# Altium schematic symbol library Capacitor - Aluminium Polymer.SchLib: 273 symbols (part 2 of 4)
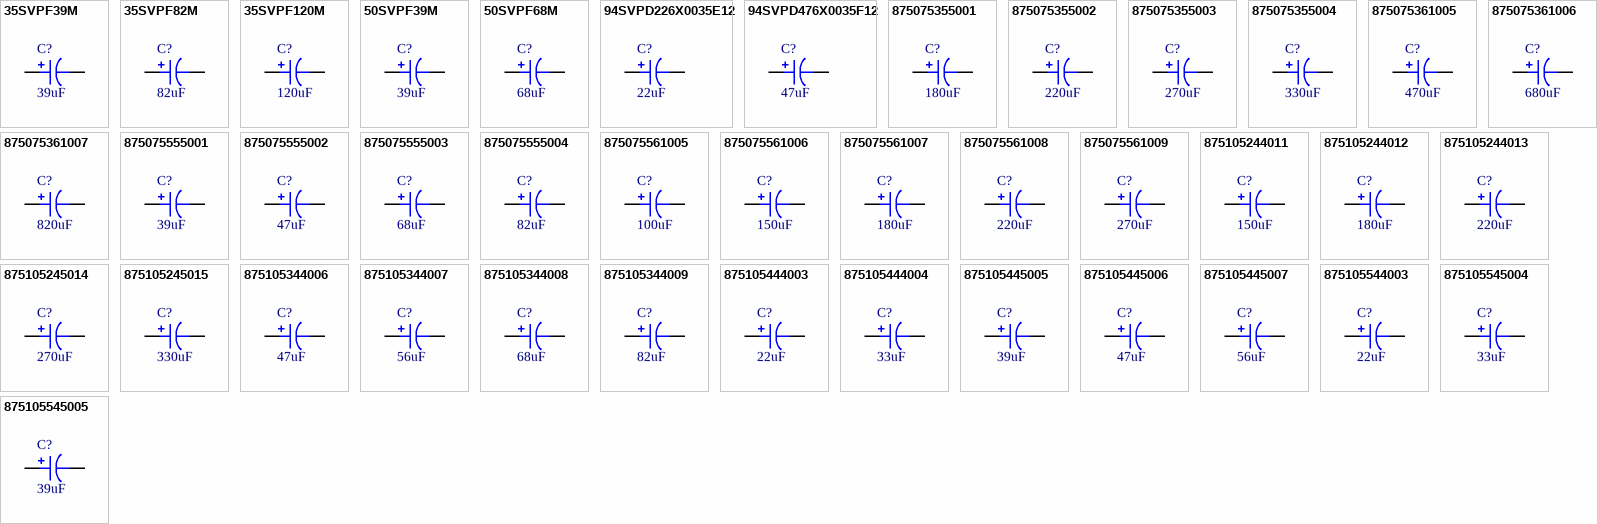
[diagram p7: symbols 35SVPF39M to 875105545005]

## 875105344006
designator C?, comment 47uF
CAP POLYMER 47UF 20% 16V SMD; Part Number: 875105344006; Manufacturer: Wurth Electronics Inc; TemperatureRange: -55C ~ 105C; Type: General Purpose; Ripple Current: 2.2A; Lifetime @ Temp: 2000 Hrs @ 105C; Value: 47uF; PartId: 7486; Supplier 1: Digi-Key; Supplier Part Number 1: 732-6421-2-ND; ComponentLink1Description: Datasheet; ComponentLink1URL: http://katalog.we-online.de/pbs/datasheet/875105344006.pdf; ComponentLink2Description: Digi-Key listing; ComponentLink2URL: http://digikey.com/product-detail/en/875105344006/732-6421-2-ND/5147585; Tolerance: 20%; Voltage: 16V; Price: 0.4489; Device Package: Radial, Can - SMD; Impedance: -
footprint CAP ALUM 6.6MM
pins: 1, 2

## 875105344007
designator C?, comment 56uF
CAP POLYMER 56UF 20% 16V SMD; Part Number: 875105344007; Manufacturer: Wurth Electronics Inc; TemperatureRange: -55C ~ 105C; Type: General Purpose; Ripple Current: 2.2A; Lifetime @ Temp: 2000 Hrs @ 105C; Value: 56uF; PartId: 7487; Supplier 1: Digi-Key; Supplier Part Number 1: 732-6422-2-ND; ComponentLink1Description: Datasheet; ComponentLink1URL: http://katalog.we-online.de/pbs/datasheet/875105344007.pdf; ComponentLink2Description: Digi-Key listing; ComponentLink2URL: http://digikey.com/product-detail/en/875105344007/732-6422-2-ND/5147586; Tolerance: 20%; Voltage: 16V; Price: 0.4619; Device Package: Radial, Can - SMD; Impedance: -
footprint CAP ALUM 6.6MM
pins: 1, 2

## 875105344008
designator C?, comment 68uF
CAP POLYMER 68UF 20% 16V SMD; Part Number: 875105344008; Manufacturer: Wurth Electronics Inc; TemperatureRange: -55C ~ 105C; Type: General Purpose; Ripple Current: 2.2A; Lifetime @ Temp: 2000 Hrs @ 105C; Value: 68uF; PartId: 7488; Supplier 1: Digi-Key; Supplier Part Number 1: 732-6423-2-ND; ComponentLink1Description: Datasheet; ComponentLink1URL: http://katalog.we-online.de/pbs/datasheet/875105344008.pdf; ComponentLink2Description: Digi-Key listing; ComponentLink2URL: http://digikey.com/product-detail/en/875105344008/732-6423-2-ND/5147587; Tolerance: 20%; Voltage: 16V; Price: 0.4791; Device Package: Radial, Can - SMD; Impedance: -
footprint CAP ALUM 6.6MM
pins: 1, 2

## 875105344009
designator C?, comment 82uF
CAP POLYMER 82UF 20% 16V SMD; Part Number: 875105344009; Manufacturer: Wurth Electronics Inc; TemperatureRange: -55C ~ 105C; Type: General Purpose; Ripple Current: 2.2A; Lifetime @ Temp: 2000 Hrs @ 105C; Value: 82uF; PartId: 7489; Supplier 1: Digi-Key; Supplier Part Number 1: 732-6424-2-ND; ComponentLink1Description: Datasheet; ComponentLink1URL: http://katalog.we-online.de/pbs/datasheet/875105344009.pdf; ComponentLink2Description: Digi-Key listing; ComponentLink2URL: http://digikey.com/product-detail/en/875105344009/732-6424-2-ND/5147588; Tolerance: 20%; Voltage: 16V; Price: 0.502; Device Package: Radial, Can - SMD; Impedance: -
footprint CAP ALUM 6.6MM
pins: 1, 2

## 875105444003
designator C?, comment 22uF
CAP POLYMER 22UF 20% 20V SMD; Part Number: 875105444003; Manufacturer: Wurth Electronics Inc; TemperatureRange: -55C ~ 105C; Type: General Purpose; Ripple Current: 2.2A; Lifetime @ Temp: 2000 Hrs @ 105C; Value: 22uF; PartId: 7494; Supplier 1: Digi-Key; Supplier Part Number 1: 732-6429-2-ND; ComponentLink1Description: Datasheet; ComponentLink1URL: http://katalog.we-online.de/pbs/datasheet/875105444003.pdf; ComponentLink2Description: Digi-Key listing; ComponentLink2URL: http://digikey.com/product-detail/en/875105444003/732-6429-2-ND/5147593; Tolerance: 20%; Voltage: 20V; Price: 0.535; Device Package: Radial, Can - SMD; Impedance: -
footprint CAP ALUM 6.6MM
pins: 1, 2

## 875105444004
designator C?, comment 33uF
CAP POLYMER 33UF 20% 20V SMD; Part Number: 875105444004; Manufacturer: Wurth Electronics Inc; TemperatureRange: -55C ~ 105C; Type: General Purpose; Ripple Current: 2.2A; Lifetime @ Temp: 2000 Hrs @ 105C; Value: 33uF; PartId: 7495; Supplier 1: Digi-Key; Supplier Part Number 1: 732-6430-2-ND; ComponentLink1Description: Datasheet; ComponentLink1URL: http://katalog.we-online.de/pbs/datasheet/875105444004.pdf; ComponentLink2Description: Digi-Key listing; ComponentLink2URL: http://digikey.com/product-detail/en/875105444004/732-6430-2-ND/5147594; Tolerance: 20%; Voltage: 20V; Price: 0.5479; Device Package: Radial, Can - SMD; Impedance: -
footprint CAP ALUM 6.6MM
pins: 1, 2

## 875105445005
designator C?, comment 39uF
CAP POLYMER 39UF 20% 20V SMD; Part Number: 875105445005; Manufacturer: Wurth Electronics Inc; TemperatureRange: -55C ~ 105C; Type: General Purpose; Ripple Current: 2.67A; Lifetime @ Temp: 2000 Hrs @ 105C; Value: 39uF; PartId: 7497; Supplier 1: Digi-Key; Supplier Part Number 1: 732-6431-2-ND; ComponentLink1Description: Datasheet; ComponentLink1URL: http://katalog.we-online.de/pbs/datasheet/875105445005.pdf; ComponentLink2Description: Digi-Key listing; ComponentLink2URL: http://digikey.com/product-detail/en/875105445005/732-6431-2-ND/5147595; Tolerance: 20%; Voltage: 20V; Price: 0.5508; Device Package: Radial, Can - SMD; Impedance: -
footprint CAP ALUM 6.6MM
pins: 1, 2

## 875105445006
designator C?, comment 47uF
CAP POLYMER 47UF 20% 20V SMD; Part Number: 875105445006; Manufacturer: Wurth Electronics Inc; TemperatureRange: -55C ~ 105C; Type: General Purpose; Ripple Current: 2.67A; Lifetime @ Temp: 2000 Hrs @ 105C; Value: 47uF; PartId: 7499; Supplier 1: Digi-Key; Supplier Part Number 1: 732-6432-2-ND; ComponentLink1Description: Datasheet; ComponentLink1URL: http://katalog.we-online.de/pbs/datasheet/875105445006.pdf; ComponentLink2Description: Digi-Key listing; ComponentLink2URL: http://digikey.com/product-detail/en/875105445006/732-6432-2-ND/5147596; Tolerance: 20%; Voltage: 20V; Price: 0.5579; Device Package: Radial, Can - SMD; Impedance: -
footprint CAP ALUM 6.6MM
pins: 1, 2

## 875105445007
designator C?, comment 56uF
CAP POLYMER 56UF 20% 20V SMD; Part Number: 875105445007; Manufacturer: Wurth Electronics Inc; TemperatureRange: -55C ~ 105C; Type: General Purpose; Ripple Current: 2.67A; Lifetime @ Temp: 2000 Hrs @ 105C; Value: 56uF; PartId: 7500; Supplier 1: Digi-Key; Supplier Part Number 1: 732-6433-2-ND; ComponentLink1Description: Datasheet; ComponentLink1URL: http://katalog.we-online.de/pbs/datasheet/875105445007.pdf; ComponentLink2Description: Digi-Key listing; ComponentLink2URL: http://digikey.com/product-detail/en/875105445007/732-6433-2-ND/5147597; Tolerance: 20%; Voltage: 20V; Price: 0.5608; Device Package: Radial, Can - SMD; Impedance: -
footprint CAP ALUM 6.6MM
pins: 1, 2

## 875105544003
designator C?, comment 22uF
CAP POLYMER 22UF 20% 25V SMD; Part Number: 875105544003; Manufacturer: Wurth Electronics Inc; TemperatureRange: -55C ~ 105C; Type: General Purpose; Ripple Current: 2.2A; Lifetime @ Temp: 2000 Hrs @ 105C; Value: 22uF; PartId: 7501; Supplier 1: Digi-Key; Supplier Part Number 1: 732-6436-2-ND; ComponentLink1Description: Datasheet; ComponentLink1URL: http://katalog.we-online.de/pbs/datasheet/875105544003.pdf; ComponentLink2Description: Digi-Key listing; ComponentLink2URL: http://digikey.com/product-detail/en/875105544003/732-6436-2-ND/5147600; Tolerance: 20%; Voltage: 25V; Price: 0.5608; Device Package: Radial, Can - SMD; Impedance: -
footprint CAP ALUM 6.6MM
pins: 1, 2

## 875105545004
designator C?, comment 33uF
CAP POLYMER 33UF 20% 25V SMD; Part Number: 875105545004; Manufacturer: Wurth Electronics Inc; TemperatureRange: -55C ~ 105C; Type: General Purpose; Ripple Current: 2.67A; Lifetime @ Temp: 2000 Hrs @ 105C; Value: 33uF; PartId: 7502; Supplier 1: Digi-Key; Supplier Part Number 1: 732-6437-2-ND; ComponentLink1Description: Datasheet; ComponentLink1URL: http://katalog.we-online.de/pbs/datasheet/875105545004.pdf; ComponentLink2Description: Digi-Key listing; ComponentLink2URL: http://digikey.com/product-detail/en/875105545004/732-6437-2-ND/5147601; Tolerance: 20%; Voltage: 25V; Price: 0.568; Device Package: Radial, Can - SMD; Impedance: -
footprint CAP ALUM 6.6MM
pins: 1, 2

## 875105545005
designator C?, comment 39uF
CAP POLYMER 39UF 20% 25V SMD; Part Number: 875105545005; Manufacturer: Wurth Electronics Inc; TemperatureRange: -55C ~ 105C; Type: General Purpose; Ripple Current: 2.67A; Lifetime @ Temp: 2000 Hrs @ 105C; Value: 39uF; PartId: 7503; Supplier 1: Digi-Key; Supplier Part Number 1: 732-6438-2-ND; ComponentLink1Description: Datasheet; ComponentLink1URL: http://katalog.we-online.de/pbs/datasheet/875105545005.pdf; ComponentLink2Description: Digi-Key listing; ComponentLink2URL: http://digikey.com/product-detail/en/875105545005/732-6438-2-ND/5147602; Tolerance: 20%; Voltage: 25V; Price: 0.5737; Device Package: Radial, Can - SMD; Impedance: -
footprint CAP ALUM 6.6MM
pins: 1, 2

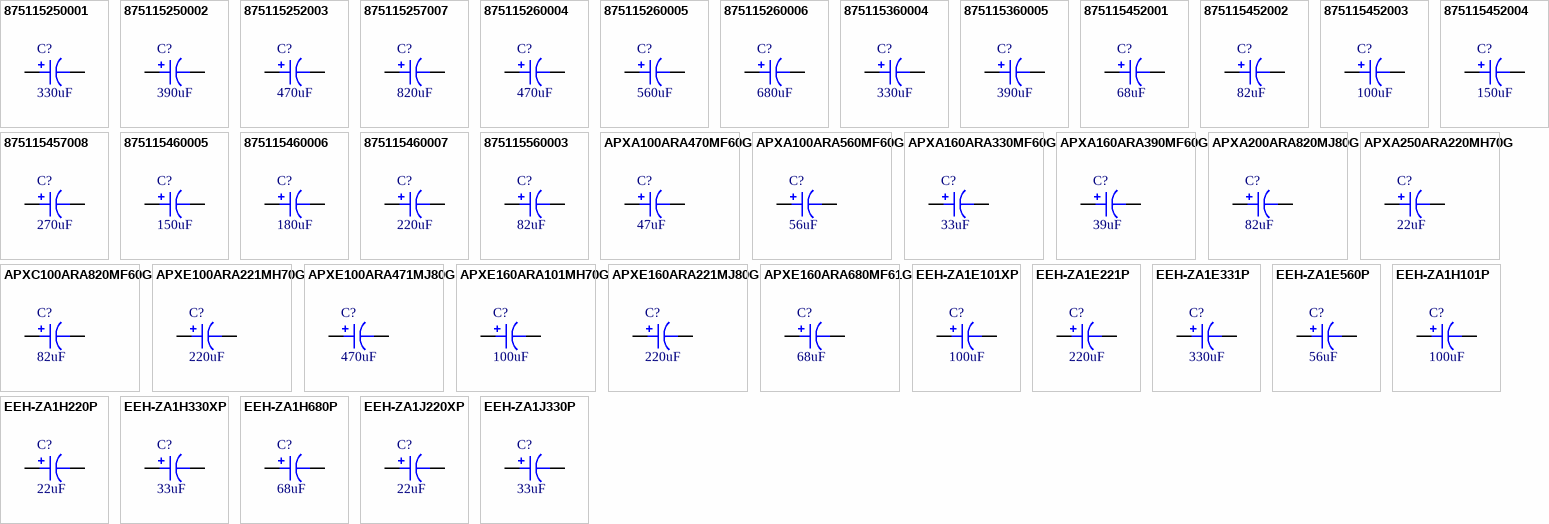
[diagram p2: symbols 875115250001 to EEH-ZA1J330P]

## 875115250001
designator C?, comment 330uF
CAP POLYMER 330UF 20% 10V SMD; Part Number: 875115250001; Manufacturer: Wurth Electronics Inc; TemperatureRange: -55C ~ 105C; Type: General Purpose; Ripple Current: 3.5A; Lifetime @ Temp: 2000 Hrs @ 105C; Value: 330uF; PartId: 7595; Supplier 1: Digi-Key; Supplier Part Number 1: 732-6449-2-ND; ComponentLink1Description: Datasheet; ComponentLink1URL: http://katalog.we-online.de/pbs/datasheet/875115250001.pdf; ComponentLink2Description: Digi-Key listing; ComponentLink2URL: http://digikey.com/product-detail/en/875115250001/732-6449-2-ND/5147613; Tolerance: 20%; Voltage: 10V; Price: 0.9323; Device Package: Radial, Can - SMD; Impedance: -
footprint CAP ALUM 8.3MM
pins: 1, 2

## 875115250002
designator C?, comment 390uF
CAP POLYMER 390UF 20% 10V SMD; Part Number: 875115250002; Manufacturer: Wurth Electronics Inc; TemperatureRange: -55C ~ 105C; Type: General Purpose; Ripple Current: 3.5A; Lifetime @ Temp: 2000 Hrs @ 105C; Value: 390uF; PartId: 7597; Supplier 1: Digi-Key; Supplier Part Number 1: 732-6450-2-ND; ComponentLink1Description: Datasheet; ComponentLink1URL: http://katalog.we-online.de/pbs/datasheet/875115250002.pdf; ComponentLink2Description: Digi-Key listing; ComponentLink2URL: http://digikey.com/product-detail/en/875115250002/732-6450-2-ND/5147614; Tolerance: 20%; Voltage: 10V; Price: 0.9596; Device Package: Radial, Can - SMD; Impedance: -
footprint CAP ALUM 8.3MM
pins: 1, 2

## 875115252003
designator C?, comment 470uF
CAP POLYMER 470UF 20% 10V SMD; Part Number: 875115252003; Manufacturer: Wurth Electronics Inc; TemperatureRange: -55C ~ 105C; Type: General Purpose; Ripple Current: 4.8A; Lifetime @ Temp: 2000 Hrs @ 105C; Value: 470uF; PartId: 7604; Supplier 1: Digi-Key; Supplier Part Number 1: 732-6451-2-ND; ComponentLink1Description: Datasheet; ComponentLink1URL: http://katalog.we-online.de/pbs/datasheet/875115252003.pdf; ComponentLink2Description: Digi-Key listing; ComponentLink2URL: http://digikey.com/product-detail/en/875115252003/732-6451-2-ND/5147615; Tolerance: 20%; Voltage: 10V; Price: 1.0528; Device Package: Radial, Can - SMD; Impedance: -
footprint CAP ALUM 8.3MM
pins: 1, 2

## 875115257007
designator C?, comment 820uF
CAP POLYMER 820UF 20% 10V SMD; Part Number: 875115257007; Manufacturer: Wurth Electronics Inc; TemperatureRange: -55C ~ 105C; Type: General Purpose; Ripple Current: 5.1A; Lifetime @ Temp: 2000 Hrs @ 105C; Value: 820uF; PartId: 7710; Supplier 1: Digi-Key; Supplier Part Number 1: 732-6455-2-ND; ComponentLink1Description: Datasheet; ComponentLink1URL: http://katalog.we-online.de/pbs/datasheet/875115257007.pdf; ComponentLink2Description: Digi-Key listing; ComponentLink2URL: http://digikey.com/product-detail/en/875115257007/732-6455-2-ND/5147619; Tolerance: 20%; Voltage: 10V; Price: 1.5275; Device Package: Radial, Can - SMD; Impedance: -
footprint CAP ALUM 10.3MM
pins: 1, 2

## 875115260004
designator C?, comment 470uF
CAP POLYMER 470UF 20% 10V SMD; Part Number: 875115260004; Manufacturer: Wurth Electronics Inc; TemperatureRange: -55C ~ 105C; Type: General Purpose; Ripple Current: 3.7A; Lifetime @ Temp: 2000 Hrs @ 105C; Value: 470uF; PartId: 7678; Supplier 1: Digi-Key; Supplier Part Number 1: 732-6452-2-ND; ComponentLink1Description: Datasheet; ComponentLink1URL: http://katalog.we-online.de/pbs/datasheet/875115260004.pdf; ComponentLink2Description: Digi-Key listing; ComponentLink2URL: http://digikey.com/product-detail/en/875115260004/732-6452-2-ND/5147616; Tolerance: 20%; Voltage: 10V; Price: 1.1575; Device Package: Radial, Can - SMD; Impedance: -
footprint CAP ALUM 10.3MM
pins: 1, 2

## 875115260005
designator C?, comment 560uF
CAP POLYMER 560UF 20% 10V SMD; Part Number: 875115260005; Manufacturer: Wurth Electronics Inc; TemperatureRange: -55C ~ 105C; Type: General Purpose; Ripple Current: 3.7A; Lifetime @ Temp: 2000 Hrs @ 105C; Value: 560uF; PartId: 7694; Supplier 1: Digi-Key; Supplier Part Number 1: 732-6453-2-ND; ComponentLink1Description: Datasheet; ComponentLink1URL: http://katalog.we-online.de/pbs/datasheet/875115260005.pdf; ComponentLink2Description: Digi-Key listing; ComponentLink2URL: http://digikey.com/product-detail/en/875115260005/732-6453-2-ND/5147617; Tolerance: 20%; Voltage: 10V; Price: 1.278; Device Package: Radial, Can - SMD; Impedance: -
footprint CAP ALUM 10.3MM
pins: 1, 2

## 875115260006
designator C?, comment 680uF
CAP POLYMER 680UF 20% 10V SMD; Part Number: 875115260006; Manufacturer: Wurth Electronics Inc; TemperatureRange: -55C ~ 105C; Type: General Purpose; Ripple Current: 3.7A; Lifetime @ Temp: 2000 Hrs @ 105C; Value: 680uF; PartId: 7703; Supplier 1: Digi-Key; Supplier Part Number 1: 732-6454-2-ND; ComponentLink1Description: Datasheet; ComponentLink1URL: http://katalog.we-online.de/pbs/datasheet/875115260006.pdf; ComponentLink2Description: Digi-Key listing; ComponentLink2URL: http://digikey.com/product-detail/en/875115260006/732-6454-2-ND/5147618; Tolerance: 20%; Voltage: 10V; Price: 1.3827; Device Package: Radial, Can - SMD; Impedance: -
footprint CAP ALUM 10.3MM
pins: 1, 2

## 875115360004
designator C?, comment 330uF
CAP POLYMER 330UF 20% 16V SMD; Part Number: 875115360004; Manufacturer: Wurth Electronics Inc; TemperatureRange: -55C ~ 105C; Type: General Purpose; Ripple Current: 3.7A; Lifetime @ Temp: 2000 Hrs @ 105C; Value: 330uF; PartId: 7679; Supplier 1: Digi-Key; Supplier Part Number 1: 732-6459-2-ND; ComponentLink1Description: Datasheet; ComponentLink1URL: http://katalog.we-online.de/pbs/datasheet/875115360004.pdf; ComponentLink2Description: Digi-Key listing; ComponentLink2URL: http://digikey.com/product-detail/en/875115360004/732-6459-2-ND/5147623; Tolerance: 20%; Voltage: 16V; Price: 1.1575; Device Package: Radial, Can - SMD; Impedance: -
footprint CAP ALUM 10.3MM
pins: 1, 2

## 875115360005
designator C?, comment 390uF
CAP POLYMER 390UF 20% 16V SMD; Part Number: 875115360005; Manufacturer: Wurth Electronics Inc; TemperatureRange: -55C ~ 105C; Type: General Purpose; Ripple Current: 3.7A; Lifetime @ Temp: 2000 Hrs @ 105C; Value: 390uF; PartId: 7689; Supplier 1: Digi-Key; Supplier Part Number 1: 732-6460-2-ND; ComponentLink1Description: Datasheet; ComponentLink1URL: http://katalog.we-online.de/pbs/datasheet/875115360005.pdf; ComponentLink2Description: Digi-Key listing; ComponentLink2URL: http://digikey.com/product-detail/en/875115360005/732-6460-2-ND/5147624; Tolerance: 20%; Voltage: 16V; Price: 1.2292; Device Package: Radial, Can - SMD; Impedance: -
footprint CAP ALUM 10.3MM
pins: 1, 2

## 875115452001
designator C?, comment 68uF
CAP POLYMER 68UF 20% 20V SMD; Part Number: 875115452001; Manufacturer: Wurth Electronics Inc; TemperatureRange: -55C ~ 105C; Type: General Purpose; Ripple Current: 3.5A; Lifetime @ Temp: 2000 Hrs @ 105C; Value: 68uF; PartId: 7608; Supplier 1: Digi-Key; Supplier Part Number 1: 732-6462-2-ND; ComponentLink1Description: Datasheet; ComponentLink1URL: http://katalog.we-online.de/pbs/datasheet/875115452001.pdf; ComponentLink2Description: Digi-Key listing; ComponentLink2URL: http://digikey.com/product-detail/en/875115452001/732-6462-2-ND/5147626; Tolerance: 20%; Voltage: 20V; Price: 1.0915; Device Package: Radial, Can - SMD; Impedance: -
footprint CAP ALUM 8.3MM
pins: 1, 2

## 875115452002
designator C?, comment 82uF
CAP POLYMER 82UF 20% 20V SMD; Part Number: 875115452002; Manufacturer: Wurth Electronics Inc; TemperatureRange: -55C ~ 105C; Type: General Purpose; Ripple Current: 3.5A; Lifetime @ Temp: 2000 Hrs @ 105C; Value: 82uF; PartId: 7611; Supplier 1: Digi-Key; Supplier Part Number 1: 732-6463-2-ND; ComponentLink1Description: Datasheet; ComponentLink1URL: http://katalog.we-online.de/pbs/datasheet/875115452002.pdf; ComponentLink2Description: Digi-Key listing; ComponentLink2URL: http://digikey.com/product-detail/en/875115452002/732-6463-2-ND/5147627; Tolerance: 20%; Voltage: 20V; Price: 1.1159; Device Package: Radial, Can - SMD; Impedance: -
footprint CAP ALUM 8.3MM
pins: 1, 2

## 875115452003
designator C?, comment 100uF
CAP POLYMER 100UF 20% 20V SMD; Part Number: 875115452003; Manufacturer: Wurth Electronics Inc; TemperatureRange: -55C ~ 105C; Type: General Purpose; Ripple Current: 3.5A; Lifetime @ Temp: 2000 Hrs @ 105C; Value: 100uF; PartId: 7613; Supplier 1: Digi-Key; Supplier Part Number 1: 732-6464-2-ND; ComponentLink1Description: Datasheet; ComponentLink1URL: http://katalog.we-online.de/pbs/datasheet/875115452003.pdf; ComponentLink2Description: Digi-Key listing; ComponentLink2URL: http://digikey.com/product-detail/en/875115452003/732-6464-2-ND/5147628; Tolerance: 20%; Voltage: 20V; Price: 1.1403; Device Package: Radial, Can - SMD; Impedance: -
footprint CAP ALUM 8.3MM
pins: 1, 2

## 875115452004
designator C?, comment 150uF
CAP POLYMER 150UF 20% 20V SMD; Part Number: 875115452004; Manufacturer: Wurth Electronics Inc; TemperatureRange: -55C ~ 105C; Type: General Purpose; Ripple Current: 3.5A; Lifetime @ Temp: 2000 Hrs @ 105C; Value: 150uF; PartId: 7614; Supplier 1: Digi-Key; Supplier Part Number 1: 732-6465-2-ND; ComponentLink1Description: Datasheet; ComponentLink1URL: http://katalog.we-online.de/pbs/datasheet/875115452004.pdf; ComponentLink2Description: Digi-Key listing; ComponentLink2URL: http://digikey.com/product-detail/en/875115452004/732-6465-2-ND/5147629; Tolerance: 20%; Voltage: 20V; Price: 1.1532; Device Package: Radial, Can - SMD; Impedance: -
footprint CAP ALUM 8.3MM
pins: 1, 2

## 875115457008
designator C?, comment 270uF
CAP POLYMER 270UF 20% 20V SMD; Part Number: 875115457008; Manufacturer: Wurth Electronics Inc; TemperatureRange: -55C ~ 105C; Type: General Purpose; Ripple Current: 3.7A; Lifetime @ Temp: 2000 Hrs @ 105C; Value: 270uF; PartId: 7711; Supplier 1: Digi-Key; Supplier Part Number 1: 732-6469-2-ND; ComponentLink1Description: Datasheet; ComponentLink1URL: http://katalog.we-online.de/pbs/datasheet/875115457008.pdf; ComponentLink2Description: Digi-Key listing; ComponentLink2URL: http://digikey.com/product-detail/en/875115457008/732-6469-2-ND/5147633; Tolerance: 20%; Voltage: 20V; Price: 1.5275; Device Package: Radial, Can - SMD; Impedance: -
footprint CAP ALUM 10.3MM
pins: 1, 2

## 875115460005
designator C?, comment 150uF
CAP POLYMER 150UF 20% 20V SMD; Part Number: 875115460005; Manufacturer: Wurth Electronics Inc; TemperatureRange: -55C ~ 105C; Type: General Purpose; Ripple Current: 3.1A; Lifetime @ Temp: 2000 Hrs @ 105C; Value: 150uF; PartId: 7680; Supplier 1: Digi-Key; Supplier Part Number 1: 732-6466-2-ND; ComponentLink1Description: Datasheet; ComponentLink1URL: http://katalog.we-online.de/pbs/datasheet/875115460005.pdf; ComponentLink2Description: Digi-Key listing; ComponentLink2URL: http://digikey.com/product-detail/en/875115460005/732-6466-2-ND/5147630; Tolerance: 20%; Voltage: 20V; Price: 1.1575; Device Package: Radial, Can - SMD; Impedance: -
footprint CAP ALUM 10.3MM
pins: 1, 2

## 875115460006
designator C?, comment 180uF
CAP POLYMER 180UF 20% 20V SMD; Part Number: 875115460006; Manufacturer: Wurth Electronics Inc; TemperatureRange: -55C ~ 105C; Type: General Purpose; Ripple Current: 3.1A; Lifetime @ Temp: 2000 Hrs @ 105C; Value: 180uF; PartId: 7683; Supplier 1: Digi-Key; Supplier Part Number 1: 732-6467-2-ND; ComponentLink1Description: Datasheet; ComponentLink1URL: http://katalog.we-online.de/pbs/datasheet/875115460006.pdf; ComponentLink2Description: Digi-Key listing; ComponentLink2URL: http://digikey.com/product-detail/en/875115460006/732-6467-2-ND/5147631; Tolerance: 20%; Voltage: 20V; Price: 1.1819; Device Package: Radial, Can - SMD; Impedance: -
footprint CAP ALUM 10.3MM
pins: 1, 2

## 875115460007
designator C?, comment 220uF
CAP POLYMER 220UF 20% 20V SMD; Part Number: 875115460007; Manufacturer: Wurth Electronics Inc; TemperatureRange: -55C ~ 105C; Type: General Purpose; Ripple Current: 3.1A; Lifetime @ Temp: 2000 Hrs @ 105C; Value: 220uF; PartId: 7686; Supplier 1: Digi-Key; Supplier Part Number 1: 732-6468-2-ND; ComponentLink1Description: Datasheet; ComponentLink1URL: http://katalog.we-online.de/pbs/datasheet/875115460007.pdf; ComponentLink2Description: Digi-Key listing; ComponentLink2URL: http://digikey.com/product-detail/en/875115460007/732-6468-2-ND/5147632; Tolerance: 20%; Voltage: 20V; Price: 1.202; Device Package: Radial, Can - SMD; Impedance: -
footprint CAP ALUM 10.3MM
pins: 1, 2

## 875115560003
designator C?, comment 82uF
CAP POLYMER 82UF 20% 25V SMD; Part Number: 875115560003; Manufacturer: Wurth Electronics Inc; TemperatureRange: -55C ~ 105C; Type: General Purpose; Ripple Current: 3.1A; Lifetime @ Temp: 2000 Hrs @ 105C; Value: 82uF; PartId: 7699; Supplier 1: Digi-Key; Supplier Part Number 1: 732-6472-2-ND; ComponentLink1Description: Datasheet; ComponentLink1URL: http://katalog.we-online.de/pbs/datasheet/875115560003.pdf; ComponentLink2Description: Digi-Key listing; ComponentLink2URL: http://digikey.com/product-detail/en/875115560003/732-6472-2-ND/5147636; Tolerance: 20%; Voltage: 25V; Price: 1.3239; Device Package: Radial, Can - SMD; Impedance: -
footprint CAP ALUM 10.3MM
pins: 1, 2

## APXA100ARA470MF60G
designator C?, comment 47uF
CAP POLYMER 47UF 20% 10V SMD; Part Number: APXA100ARA470MF60G; Manufacturer: United Chemi-Con; TemperatureRange: -55C ~ 105C; Ripple Current: 2.25A; Lifetime @ Temp: 2000 Hrs @ 105C; Value: 47uF; PartId: 7504; Supplier 1: Digi-Key; Supplier Part Number 1: 565-3073-2-ND; ComponentLink1Description: Datasheet; ComponentLink1URL: http://www.chemi-con.co.jp/cgi-bin/CAT_DB/SEARCH/cat_db_al.cgi?e=e&j=p&pdfname=pxa; ComponentLink2Description: Digi-Key listing; ComponentLink2URL: http://digikey.com/product-detail/en/APXA100ARA470MF60G/565-3073-2-ND/758504; Tolerance: 20%; Voltage: 10V; Price: 0.5831; Type: -; Device Package: Radial, Can - SMD; Impedance: -
footprint CAP ALUM 6.6MM
pins: 1, 2

## APXA100ARA560MF60G
designator C?, comment 56uF
CAP POLYMER 56UF 20% 10V SMD; Part Number: APXA100ARA560MF60G; Manufacturer: United Chemi-Con; TemperatureRange: -55C ~ 105C; Ripple Current: 2.25A; Lifetime @ Temp: 2000 Hrs @ 105C; Value: 56uF; PartId: 7505; Supplier 1: Digi-Key; Supplier Part Number 1: 565-3076-2-ND; ComponentLink1Description: Datasheet; ComponentLink1URL: http://www.chemi-con.co.jp/cgi-bin/CAT_DB/SEARCH/cat_db_al.cgi?e=e&j=p&pdfname=pxa; ComponentLink2Description: Digi-Key listing; ComponentLink2URL: http://digikey.com/product-detail/en/APXA100ARA560MF60G/565-3076-2-ND/758507; Tolerance: 20%; Voltage: 10V; Price: 0.5874; Type: -; Device Package: Radial, Can - SMD; Impedance: -
footprint CAP ALUM 6.6MM
pins: 1, 2

## APXA160ARA330MF60G
designator C?, comment 33uF
CAP POLYMER 33UF 20% 16V SMD; Part Number: APXA160ARA330MF60G; Manufacturer: United Chemi-Con; TemperatureRange: -55C ~ 105C; Ripple Current: 2.05A; Lifetime @ Temp: 2000 Hrs @ 105C; Value: 33uF; PartId: 7506; Supplier 1: Digi-Key; Supplier Part Number 1: 565-3082-2-ND; ComponentLink1Description: Datasheet; ComponentLink1URL: http://www.chemi-con.co.jp/cgi-bin/CAT_DB/SEARCH/cat_db_al.cgi?e=e&j=p&pdfname=pxa; ComponentLink2Description: Digi-Key listing; ComponentLink2URL: http://digikey.com/product-detail/en/APXA160ARA330MF60G/565-3082-2-ND/758513; Tolerance: 20%; Voltage: 16V; Price: 0.5895; Type: -; Device Package: Radial, Can - SMD; Impedance: -
footprint CAP ALUM 6.6MM
pins: 1, 2

## APXA160ARA390MF60G
designator C?, comment 39uF
CAP POLYMER 39UF 20% 16V SMD; Part Number: APXA160ARA390MF60G; Manufacturer: United Chemi-Con; TemperatureRange: -55C ~ 105C; Ripple Current: 2.05A; Lifetime @ Temp: 2000 Hrs @ 105C; Value: 39uF; PartId: 7507; Supplier 1: Digi-Key; Supplier Part Number 1: 565-3084-2-ND; ComponentLink1Description: Datasheet; ComponentLink1URL: http://www.chemi-con.co.jp/cgi-bin/CAT_DB/SEARCH/cat_db_al.cgi?e=e&j=p&pdfname=pxa; ComponentLink2Description: Digi-Key listing; ComponentLink2URL: http://digikey.com/product-detail/en/APXA160ARA390MF60G/565-3084-2-ND/758515; Tolerance: 20%; Voltage: 16V; Price: 0.5895; Type: -; Device Package: Radial, Can - SMD; Impedance: -
footprint CAP ALUM 6.6MM
pins: 1, 2

## APXA200ARA820MJ80G
designator C?, comment 82uF
CAP POLYMER 82UF 20% 20V SMD; Part Number: APXA200ARA820MJ80G; Manufacturer: United Chemi-Con; TemperatureRange: -55C ~ 105C; Ripple Current: 2.5A; Lifetime @ Temp: 2000 Hrs @ 105C; Value: 82uF; PartId: 7684; Supplier 1: Digi-Key; Supplier Part Number 1: 565-3245-2-ND; ComponentLink1Description: Datasheet; ComponentLink1URL: http://www.chemi-con.co.jp/cgi-bin/CAT_DB/SEARCH/cat_db_al.cgi?e=e&j=p&pdfname=pxa; ComponentLink2Description: Digi-Key listing; ComponentLink2URL: http://digikey.com/product-detail/en/APXA200ARA820MJ80G/565-3245-2-ND/1885662; Tolerance: 20%; Voltage: 20V; Price: 1.185; Type: -; Device Package: Radial, Can - SMD; Impedance: -
footprint CAP ALUM 10.3MM
pins: 1, 2

## APXA250ARA220MH70G
designator C?, comment 22uF
CAP POLYMER 22UF 20% 25V SMD; Part Number: APXA250ARA220MH70G; Manufacturer: United Chemi-Con; TemperatureRange: -55C ~ 105C; Ripple Current: 1.8A; Lifetime @ Temp: 2000 Hrs @ 105C; Value: 22uF; PartId: 7578; Supplier 1: Digi-Key; Supplier Part Number 1: 565-3250-2-ND; ComponentLink1Description: Datasheet; ComponentLink1URL: http://www.chemi-con.co.jp/cgi-bin/CAT_DB/SEARCH/cat_db_al.cgi?e=e&j=p&pdfname=pxa; ComponentLink2Description: Digi-Key listing; ComponentLink2URL: http://digikey.com/product-detail/en/APXA250ARA220MH70G/565-3250-2-ND/1885667; Tolerance: 20%; Voltage: 25V; Price: 0.8154; Type: -; Device Package: Radial, Can - SMD; Impedance: -
footprint CAP ALUM 8.3MM
pins: 1, 2

## APXC100ARA820MF60G
designator C?, comment 82uF
CAP POLYMER 82UF 20% 10V SMD; Part Number: APXC100ARA820MF60G; Manufacturer: United Chemi-Con; TemperatureRange: -55C ~ 105C; Ripple Current: 2.4A; Lifetime @ Temp: 1000 Hrs @ 105C; Value: 82uF; PartId: 7512; Supplier 1: Digi-Key; Supplier Part Number 1: 565-3126-2-ND; ComponentLink1Description: Datasheet; ComponentLink1URL: http://media.digikey.com/pdf/Data%20Sheets/United%20Chemi-Con%20PDFs/PXC%20Series.pdf; ComponentLink2Description: Digi-Key listing; ComponentLink2URL: http://digikey.com/product-detail/en/APXC100ARA820MF60G/565-3126-2-ND/758556; Tolerance: 20%; Voltage: 10V; Price: 0.611; Type: -; Device Package: Radial, Can - SMD; Impedance: -
footprint CAP ALUM 6.6MM
pins: 1, 2

## APXE100ARA221MH70G
designator C?, comment 220uF
CAP POLYMER 220UF 20% 10V SMD; Part Number: APXE100ARA221MH70G; Manufacturer: United Chemi-Con; TemperatureRange: -55C ~ 105C; Ripple Current: 3.22A; Lifetime @ Temp: 15000 Hrs @ 105C; Value: 220uF; PartId: 7592; Supplier 1: Digi-Key; Supplier Part Number 1: 565-3202-2-ND; ComponentLink1Description: Datasheet; ComponentLink1URL: http://www.chemi-con.co.jp/cgi-bin/CAT_DB/SEARCH/cat_db_al.cgi?e=e&j=p&pdfname=pxe; ComponentLink2Description: Digi-Key listing; ComponentLink2URL: http://digikey.com/product-detail/en/APXE100ARA221MH70G/565-3202-2-ND/1826666; Tolerance: 20%; Voltage: 10V; Price: 0.9036; Type: -; Device Package: Radial, Can - SMD; Impedance: -
footprint CAP ALUM 8.3MM
pins: 1, 2

## APXE100ARA471MJ80G
designator C?, comment 470uF
CAP POLYMER 470UF 20% 10V SMD; Part Number: APXE100ARA471MJ80G; Manufacturer: United Chemi-Con; TemperatureRange: -55C ~ 105C; Ripple Current: 3.8A; Lifetime @ Temp: 15000 Hrs @ 105C; Value: 470uF; PartId: 7692; Supplier 1: Digi-Key; Supplier Part Number 1: 565-3205-2-ND; ComponentLink1Description: Datasheet; ComponentLink1URL: http://www.chemi-con.co.jp/cgi-bin/CAT_DB/SEARCH/cat_db_al.cgi?e=e&j=p&pdfname=pxe; ComponentLink2Description: Digi-Key listing; ComponentLink2URL: http://digikey.com/product-detail/en/APXE100ARA471MJ80G/565-3205-2-ND/1826669; Tolerance: 20%; Voltage: 10V; Price: 1.2599; Type: -; Device Package: Radial, Can - SMD; Impedance: -
footprint CAP ALUM 10.3MM
pins: 1, 2

## APXE160ARA101MH70G
designator C?, comment 100uF
CAP POLYMER 100UF 20% 16V SMD; Part Number: APXE160ARA101MH70G; Manufacturer: United Chemi-Con; TemperatureRange: -55C ~ 105C; Ripple Current: 3.01A; Lifetime @ Temp: 15000 Hrs @ 105C; Value: 100uF; PartId: 7589; Supplier 1: Digi-Key; Supplier Part Number 1: 565-3211-2-ND; ComponentLink1Description: Datasheet; ComponentLink1URL: http://www.chemi-con.co.jp/cgi-bin/CAT_DB/SEARCH/cat_db_al.cgi?e=e&j=p&pdfname=pxe; ComponentLink2Description: Digi-Key listing; ComponentLink2URL: http://digikey.com/product-detail/en/APXE160ARA101MH70G/565-3211-2-ND/1826675; Tolerance: 20%; Voltage: 16V; Price: 0.895; Type: -; Device Package: Radial, Can - SMD; Impedance: -
footprint CAP ALUM 8.3MM
pins: 1, 2

## APXE160ARA221MJ80G
designator C?, comment 220uF
CAP POLYMER 220UF 20% 16V SMD; Part Number: APXE160ARA221MJ80G; Manufacturer: United Chemi-Con; TemperatureRange: -55C ~ 105C; Ripple Current: 3.45A; Lifetime @ Temp: 15000 Hrs @ 105C; Value: 220uF; PartId: 7691; Supplier 1: Digi-Key; Supplier Part Number 1: 565-3216-2-ND; ComponentLink1Description: Datasheet; ComponentLink1URL: http://www.chemi-con.co.jp/cgi-bin/CAT_DB/SEARCH/cat_db_al.cgi?e=e&j=p&pdfname=pxe; ComponentLink2Description: Digi-Key listing; ComponentLink2URL: http://digikey.com/product-detail/en/APXE160ARA221MJ80G/565-3216-2-ND/1826680; Tolerance: 20%; Voltage: 16V; Price: 1.2576; Type: -; Device Package: Radial, Can - SMD; Impedance: -
footprint CAP ALUM 10.3MM
pins: 1, 2

## APXE160ARA680MF61G
designator C?, comment 68uF
CAP POLYMER 68UF 20% 16V SMD; Part Number: APXE160ARA680MF61G; Manufacturer: United Chemi-Con; TemperatureRange: -55C ~ 105C; Ripple Current: 2.39A; Lifetime @ Temp: 15000 Hrs @ 105C; Value: 68uF; PartId: 7524; Supplier 1: Digi-Key; Supplier Part Number 1: 565-3208-2-ND; ComponentLink1Description: Datasheet; ComponentLink1URL: http://www.chemi-con.co.jp/cgi-bin/CAT_DB/SEARCH/cat_db_al.cgi?e=e&j=p&pdfname=pxe; ComponentLink2Description: Digi-Key listing; ComponentLink2URL: http://digikey.com/product-detail/en/APXE160ARA680MF61G/565-3208-2-ND/1826672; Tolerance: 20%; Voltage: 16V; Price: 0.6282; Type: -; Device Package: Radial, Can - SMD; Impedance: -
footprint CAP ALUM 6.6MM
pins: 1, 2

## EEH-ZA1E101XP
designator C?, comment 100uF
CAP POLYMER 100UF 20% 25V SMD; Part Number: EEH-ZA1E101XP; Manufacturer: Panasonic Electronic Components; TemperatureRange: -55C ~ 105C; Ripple Current: 2A; Lifetime @ Temp: 10000 Hrs @ 105C; Value: 100uF; PartId: 7549; Supplier 1: Digi-Key; Supplier Part Number 1: P15436TR-ND; ComponentLink1Description: Datasheet; ComponentLink1URL: http://industrial.panasonic.com/www-data/pdf/ABA0000/ABA0000CE136.pdf; ComponentLink2Description: Digi-Key listing; ComponentLink2URL: http://digikey.com/product-detail/en/EEH-ZA1E101XP/P15436TR-ND/3088115; Tolerance: 20%; Voltage: 25V; Price: 1.0765; Type: -; Device Package: Radial, Can - SMD; Impedance: -
footprint CAP ALUM 6.6MM
pins: 1, 2

## EEH-ZA1E221P
designator C?, comment 220uF
CAP POLYMER 220UF 20% 25V SMD; Part Number: EEH-ZA1E221P; Manufacturer: Panasonic Electronic Components; TemperatureRange: -55C ~ 105C; Ripple Current: 2.3A; Lifetime @ Temp: 10000 Hrs @ 105C; Value: 220uF; PartId: 7631; Supplier 1: Digi-Key; Supplier Part Number 1: P15437TR-ND; ComponentLink1Description: Datasheet; ComponentLink1URL: http://industrial.panasonic.com/www-data/pdf/ABA0000/ABA0000CE136.pdf; ComponentLink2Description: Digi-Key listing; ComponentLink2URL: http://digikey.com/product-detail/en/EEH-ZA1E221P/P15437TR-ND/3088116; Tolerance: 20%; Voltage: 25V; Price: 1.582; Type: -; Device Package: Radial, Can - SMD; Impedance: -
footprint CAP ALUM 8.3MM
pins: 1, 2

## EEH-ZA1E331P
designator C?, comment 330uF
CAP POLYMER 330UF 20% 25V SMD; Part Number: EEH-ZA1E331P; Manufacturer: Panasonic Electronic Components; TemperatureRange: -55C ~ 105C; Ripple Current: 2.5A; Lifetime @ Temp: 10000 Hrs @ 105C; Value: 330uF; PartId: 7736; Supplier 1: Digi-Key; Supplier Part Number 1: P15439TR-ND; ComponentLink1Description: Datasheet; ComponentLink1URL: http://industrial.panasonic.com/www-data/pdf/ABA0000/ABA0000CE136.pdf; ComponentLink2Description: Digi-Key listing; ComponentLink2URL: http://digikey.com/product-detail/en/EEH-ZA1E331P/P15439TR-ND/3088117; Tolerance: 20%; Voltage: 25V; Price: 1.8824; Type: -; Device Package: Radial, Can - SMD; Impedance: -
footprint CAP ALUM 10.3MM
pins: 1, 2

## EEH-ZA1E560P
designator C?, comment 56uF
CAP POLYMER HYB 56UF 20% 25V SMD; Part Number: EEH-ZA1E560P; Manufacturer: Panasonic Electronic Components; TemperatureRange: -55C ~ 105C; Ripple Current: 1.3A; Lifetime @ Temp: 10000 Hrs @ 105C; Value: 56uF; PartId: 7540; Supplier 1: Digi-Key; Supplier Part Number 1: P15440TR-ND; ComponentLink1Description: Datasheet; ComponentLink1URL: http://industrial.panasonic.com/www-data/pdf/ABA0000/ABA0000CE136.pdf; ComponentLink2Description: Digi-Key listing; ComponentLink2URL: http://digikey.com/product-detail/en/EEH-ZA1E560P/P15440TR-ND/3088114; Tolerance: 20%; Voltage: 25V; Price: 0.8065; Type: -; Device Package: Radial, Can - SMD; Impedance: -
footprint CAP ALUM 6.6MM
pins: 1, 2

## EEH-ZA1H101P
designator C?, comment 100uF
CAP POLYMER 100UF 20% 50V SMD; Part Number: EEH-ZA1H101P; Manufacturer: Panasonic Electronic Components; TemperatureRange: -55C ~ 105C; Ripple Current: 2A; Lifetime @ Temp: 10000 Hrs @ 105C; Value: 100uF; PartId: 7732; Supplier 1: Digi-Key; Supplier Part Number 1: P15442TR-ND; ComponentLink1Description: Datasheet; ComponentLink1URL: http://industrial.panasonic.com/www-data/pdf/ABA0000/ABA0000CE136.pdf; ComponentLink2Description: Digi-Key listing; ComponentLink2URL: http://digikey.com/product-detail/en/EEH-ZA1H101P/P15442TR-ND/3088128; Tolerance: 20%; Voltage: 50V; Price: 1.8455; Type: -; Device Package: Radial, Can - SMD; Impedance: -
footprint CAP ALUM 10.3MM
pins: 1, 2

## EEH-ZA1H220P
designator C?, comment 22uF
CAP POLYMER HYB 22UF 20% 50V SMD; Part Number: EEH-ZA1H220P; Manufacturer: Panasonic Electronic Components; TemperatureRange: -55C ~ 105C; Ripple Current: 1.1A; Lifetime @ Temp: 10000 Hrs @ 105C; Value: 22uF; PartId: 7539; Supplier 1: Digi-Key; Supplier Part Number 1: P15443TR-ND; ComponentLink1Description: Datasheet; ComponentLink1URL: http://industrial.panasonic.com/www-data/pdf/ABA0000/ABA0000CE136.pdf; ComponentLink2Description: Digi-Key listing; ComponentLink2URL: http://digikey.com/product-detail/en/EEH-ZA1H220P/P15443TR-ND/3088125; Tolerance: 20%; Voltage: 50V; Price: 0.8065; Type: -; Device Package: Radial, Can - SMD; Impedance: -
footprint CAP ALUM 6.6MM
pins: 1, 2

## EEH-ZA1H330XP
designator C?, comment 33uF
CAP POLYMER HYB 33UF 20% 50V SMD; Part Number: EEH-ZA1H330XP; Manufacturer: Panasonic Electronic Components; TemperatureRange: -55C ~ 105C; Ripple Current: 1.6A; Lifetime @ Temp: 10000 Hrs @ 105C; Value: 33uF; PartId: 7552; Supplier 1: Digi-Key; Supplier Part Number 1: P15444TR-ND; ComponentLink1Description: Datasheet; ComponentLink1URL: http://industrial.panasonic.com/www-data/pdf/ABA0000/ABA0000CE136.pdf; ComponentLink2Description: Digi-Key listing; ComponentLink2URL: http://digikey.com/product-detail/en/EEH-ZA1H330XP/P15444TR-ND/3088126; Tolerance: 20%; Voltage: 50V; Price: 1.098; Type: -; Device Package: Radial, Can - SMD; Impedance: -
footprint CAP ALUM 6.6MM
pins: 1, 2

## EEH-ZA1H680P
designator C?, comment 68uF
CAP POLYMER HYB 68UF 20% 50V SMD; Part Number: EEH-ZA1H680P; Manufacturer: Panasonic Electronic Components; TemperatureRange: -55C ~ 105C; Ripple Current: 1.8A; Lifetime @ Temp: 10000 Hrs @ 105C; Value: 68uF; PartId: 7630; Supplier 1: Digi-Key; Supplier Part Number 1: P15445TR-ND; ComponentLink1Description: Datasheet; ComponentLink1URL: http://industrial.panasonic.com/www-data/pdf/ABA0000/ABA0000CE136.pdf; ComponentLink2Description: Digi-Key listing; ComponentLink2URL: http://digikey.com/product-detail/en/EEH-ZA1H680P/P15445TR-ND/3088127; Tolerance: 20%; Voltage: 50V; Price: 1.582; Type: -; Device Package: Radial, Can - SMD; Impedance: -
footprint CAP ALUM 8.3MM
pins: 1, 2

## EEH-ZA1J220XP
designator C?, comment 22uF
CAP POLYMER HYB 22UF 20% 63V SMD; Part Number: EEH-ZA1J220XP; Manufacturer: Panasonic Electronic Components; TemperatureRange: -55C ~ 105C; Ripple Current: 1.5A; Lifetime @ Temp: 10000 Hrs @ 105C; Value: 22uF; PartId: 7551; Supplier 1: Digi-Key; Supplier Part Number 1: P15447TR-ND; ComponentLink1Description: Datasheet; ComponentLink1URL: http://industrial.panasonic.com/www-data/pdf/ABA0000/ABA0000CE136.pdf; ComponentLink2Description: Digi-Key listing; ComponentLink2URL: http://digikey.com/product-detail/en/EEH-ZA1J220XP/P15447TR-ND/3088130; Tolerance: 20%; Voltage: 63V; Price: 1.098; Type: -; Device Package: Radial, Can - SMD; Impedance: -
footprint CAP ALUM 6.6MM
pins: 1, 2

## EEH-ZA1J330P
designator C?, comment 33uF
CAP POLYMER HYB 33UF 20% 63V SMD; Part Number: EEH-ZA1J330P; Manufacturer: Panasonic Electronic Components; TemperatureRange: -55C ~ 105C; Ripple Current: 1.6A; Lifetime @ Temp: 10000 Hrs @ 105C; Value: 33uF; PartId: 7632; Supplier 1: Digi-Key; Supplier Part Number 1: P15448TR-ND; ComponentLink1Description: Datasheet; ComponentLink1URL: http://industrial.panasonic.com/www-data/pdf/ABA0000/ABA0000CE136.pdf; ComponentLink2Description: Digi-Key listing; ComponentLink2URL: http://digikey.com/product-detail/en/EEH-ZA1J330P/P15448TR-ND/3088131; Tolerance: 20%; Voltage: 63V; Price: 1.6137; Type: -; Device Package: Radial, Can - SMD; Impedance: -
footprint CAP ALUM 8.3MM
pins: 1, 2

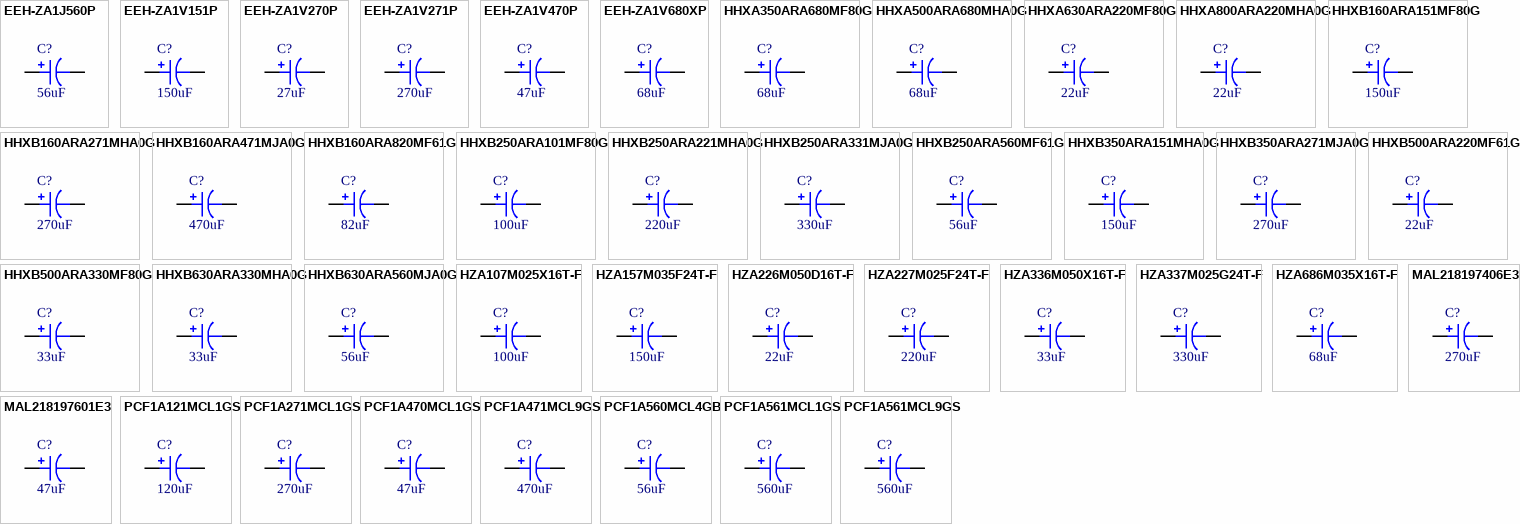
[diagram p3: symbols EEH-ZA1J560P to PCF1A561MCL9GS]

## EEH-ZA1J560P
designator C?, comment 56uF
CAP POLYMER HYB 56UF 20% 63V SMD; Part Number: EEH-ZA1J560P; Manufacturer: Panasonic Electronic Components; TemperatureRange: -55C ~ 105C; Ripple Current: 1.8A; Lifetime @ Temp: 10000 Hrs @ 105C; Value: 56uF; PartId: 7731; Supplier 1: Digi-Key; Supplier Part Number 1: P15449TR-ND; ComponentLink1Description: Datasheet; ComponentLink1URL: http://industrial.panasonic.com/www-data/pdf/ABA0000/ABA0000CE136.pdf; ComponentLink2Description: Digi-Key listing; ComponentLink2URL: http://digikey.com/product-detail/en/EEH-ZA1J560P/P15449TR-ND/3088132; Tolerance: 20%; Voltage: 63V; Price: 1.8455; Type: -; Device Package: Radial, Can - SMD; Impedance: -
footprint CAP ALUM 10.3MM
pins: 1, 2

## EEH-ZA1V151P
designator C?, comment 150uF
CAP POLYMER 150UF 20% 35V SMD; Part Number: EEH-ZA1V151P; Manufacturer: Panasonic Electronic Components; TemperatureRange: -55C ~ 105C; Ripple Current: 2.3A; Lifetime @ Temp: 10000 Hrs @ 105C; Value: 150uF; PartId: 7629; Supplier 1: Digi-Key; Supplier Part Number 1: P15450TR-ND; ComponentLink1Description: Datasheet; ComponentLink1URL: http://industrial.panasonic.com/www-data/pdf/ABA0000/ABA0000CE136.pdf; ComponentLink2Description: Digi-Key listing; ComponentLink2URL: http://digikey.com/product-detail/en/EEH-ZA1V151P/P15450TR-ND/3088122; Tolerance: 20%; Voltage: 35V; Price: 1.582; Type: -; Device Package: Radial, Can - SMD; Impedance: -
footprint CAP ALUM 8.3MM
pins: 1, 2

## EEH-ZA1V270P
designator C?, comment 27uF
CAP POLYMER HYB 27UF 20% 35V SMD; Part Number: EEH-ZA1V270P; Manufacturer: Panasonic Electronic Components; TemperatureRange: -55C ~ 105C; Ripple Current: 1.3A; Lifetime @ Temp: 10000 Hrs @ 105C; Value: 27uF; PartId: 7541; Supplier 1: Digi-Key; Supplier Part Number 1: P15452TR-ND; ComponentLink1Description: Datasheet; ComponentLink1URL: http://industrial.panasonic.com/www-data/pdf/ABA0000/ABA0000CE136.pdf; ComponentLink2Description: Digi-Key listing; ComponentLink2URL: http://digikey.com/product-detail/en/EEH-ZA1V270P/P15452TR-ND/3088119; Tolerance: 20%; Voltage: 35V; Price: 0.8065; Type: -; Device Package: Radial, Can - SMD; Impedance: -
footprint CAP ALUM 6.6MM
pins: 1, 2

## EEH-ZA1V271P
designator C?, comment 270uF
CAP POLYMER 270UF 20% 35V SMD; Part Number: EEH-ZA1V271P; Manufacturer: Panasonic Electronic Components; TemperatureRange: -55C ~ 105C; Ripple Current: 2.5A; Lifetime @ Temp: 10000 Hrs @ 105C; Value: 270uF; PartId: 7730; Supplier 1: Digi-Key; Supplier Part Number 1: P15453TR-ND; ComponentLink1Description: Datasheet; ComponentLink1URL: http://industrial.panasonic.com/www-data/pdf/ABA0000/ABA0000CE136.pdf; ComponentLink2Description: Digi-Key listing; ComponentLink2URL: http://digikey.com/product-detail/en/EEH-ZA1V271P/P15453TR-ND/3088123; Tolerance: 20%; Voltage: 35V; Price: 1.8455; Type: -; Device Package: Radial, Can - SMD; Impedance: -
footprint CAP ALUM 10.3MM
pins: 1, 2

## EEH-ZA1V470P
designator C?, comment 47uF
CAP POLYMER HYB 47UF 20% 35V SMD; Part Number: EEH-ZA1V470P; Manufacturer: Panasonic Electronic Components; TemperatureRange: -55C ~ 105C; Ripple Current: 1.3A; Lifetime @ Temp: 10000 Hrs @ 105C; Value: 47uF; PartId: 7529; Supplier 1: Digi-Key; Supplier Part Number 1: P15454TR-ND; ComponentLink1Description: Datasheet; ComponentLink1URL: http://industrial.panasonic.com/www-data/pdf/ABA0000/ABA0000CE136.pdf; ComponentLink2Description: Digi-Key listing; ComponentLink2URL: http://digikey.com/product-detail/en/EEH-ZA1V470P/P15454TR-ND/3088120; Tolerance: 20%; Voltage: 35V; Price: 0.7169; Type: -; Device Package: Radial, Can - SMD; Impedance: -
footprint CAP ALUM 6.6MM
pins: 1, 2

## EEH-ZA1V680XP
designator C?, comment 68uF
CAP POLYMER HYB 68UF 20% 35V SMD; Part Number: EEH-ZA1V680XP; Manufacturer: Panasonic Electronic Components; TemperatureRange: -55C ~ 105C; Ripple Current: 2A; Lifetime @ Temp: 10000 Hrs @ 105C; Value: 68uF; PartId: 7550; Supplier 1: Digi-Key; Supplier Part Number 1: P15455TR-ND; ComponentLink1Description: Datasheet; ComponentLink1URL: http://industrial.panasonic.com/www-data/pdf/ABA0000/ABA0000CE136.pdf; ComponentLink2Description: Digi-Key listing; ComponentLink2URL: http://digikey.com/product-detail/en/EEH-ZA1V680XP/P15455TR-ND/3088121; Tolerance: 20%; Voltage: 35V; Price: 1.0765; Type: -; Device Package: Radial, Can - SMD; Impedance: -
footprint CAP ALUM 6.6MM
pins: 1, 2

## HHXA350ARA680MF80G
designator C?, comment 68uF
CAP POLYMER HYB 68UF 20% 35V SMD; Part Number: HHXA350ARA680MF80G; Manufacturer: United Chemi-Con; TemperatureRange: -55C ~ 125C; Type: General Purpose; Ripple Current: 1.4A; Lifetime @ Temp: 4000 Hrs @ 125C; Value: 68uF; PartId: 7545; Supplier 1: Digi-Key; Supplier Part Number 1: 565-4164-2-ND; ComponentLink1Description: Datasheet; ComponentLink1URL: http://www.chemi-con.co.jp/cgi-bin/CAT_DB/SEARCH/cat_db_al.cgi?e=e&j=p&pdfname=hxa; ComponentLink2Description: Digi-Key listing; ComponentLink2URL: http://digikey.com/product-detail/en/HHXA350ARA680MF80G/565-4164-2-ND/4847404; Tolerance: 20%; Voltage: 35V; Price: 0.9065; Device Package: Radial, Can - SMD; Impedance: -
footprint CAP ALUM 6.6MM
pins: 1, 2

## HHXA500ARA680MHA0G
designator C?, comment 68uF
CAP POLYMER HYB 68UF 20% 50V SMD; Part Number: HHXA500ARA680MHA0G; Manufacturer: United Chemi-Con; TemperatureRange: -55C ~ 125C; Type: General Purpose; Ripple Current: 1.25A; Lifetime @ Temp: 4000 Hrs @ 125C; Value: 68uF; PartId: 7633; Supplier 1: Digi-Key; Supplier Part Number 1: 565-4168-2-ND; ComponentLink1Description: Datasheet; ComponentLink1URL: http://www.chemi-con.co.jp/cgi-bin/CAT_DB/SEARCH/cat_db_al.cgi?e=e&j=p&pdfname=hxa; ComponentLink2Description: Digi-Key listing; ComponentLink2URL: http://digikey.com/product-detail/en/HHXA500ARA680MHA0G/565-4168-2-ND/4847409; Tolerance: 20%; Voltage: 50V; Price: 1.6248; Device Package: Radial, Can - SMD; Impedance: -
footprint CAP ALUM 8.3MM
pins: 1, 2

## HHXA630ARA220MF80G
designator C?, comment 22uF
CAP POLYMER HYB 22UF 20% 63V SMD; Part Number: HHXA630ARA220MF80G; Manufacturer: United Chemi-Con; TemperatureRange: -55C ~ 125C; Type: General Purpose; Ripple Current: 900mA; Lifetime @ Temp: 4000 Hrs @ 125C; Value: 22uF; PartId: 7544; Supplier 1: Digi-Key; Supplier Part Number 1: 565-4170-2-ND; ComponentLink1Description: Datasheet; ComponentLink1URL: http://www.chemi-con.co.jp/cgi-bin/CAT_DB/SEARCH/cat_db_al.cgi?e=e&j=p&pdfname=hxa; ComponentLink2Description: Digi-Key listing; ComponentLink2URL: http://digikey.com/product-detail/en/HHXA630ARA220MF80G/565-4170-2-ND/4847412; Tolerance: 20%; Voltage: 63V; Price: 0.9065; Device Package: Radial, Can - SMD; Impedance: -
footprint CAP ALUM 6.6MM
pins: 1, 2

## HHXA800ARA220MHA0G
designator C?, comment 22uF
CAP POLYMER HYB 22UF 20% 80V SMD; Part Number: HHXA800ARA220MHA0G; Manufacturer: United Chemi-Con; TemperatureRange: -55C ~ 125C; Type: General Purpose; Ripple Current: 1.1A; Lifetime @ Temp: 4000 Hrs @ 125C; Value: 22uF; PartId: 7634; Supplier 1: Digi-Key; Supplier Part Number 1: 565-4173-2-ND; ComponentLink1Description: Datasheet; ComponentLink1URL: http://www.chemi-con.co.jp/cgi-bin/CAT_DB/SEARCH/cat_db_al.cgi?e=e&j=p&pdfname=hxa; ComponentLink2Description: Digi-Key listing; ComponentLink2URL: http://digikey.com/product-detail/en/HHXA800ARA220MHA0G/565-4173-2-ND/4896000; Tolerance: 20%; Voltage: 80V; Price: 1.6248; Device Package: Radial, Can - SMD; Impedance: -
footprint CAP ALUM 8.3MM
pins: 1, 2

## HHXB160ARA151MF80G
designator C?, comment 150uF
CAP POLYMER 150UF 20% 16V SMD; Part Number: HHXB160ARA151MF80G; Manufacturer: United Chemi-Con; TemperatureRange: -55C ~ 105C; Type: General Purpose; Ripple Current: 2.2A; Lifetime @ Temp: 5000 Hrs @ 105C; Value: 150uF; PartId: 7535; Supplier 1: Digi-Key; Supplier Part Number 1: 565-4175-2-ND; ComponentLink1Description: Datasheet; ComponentLink1URL: http://www.chemi-con.co.jp/cgi-bin/CAT_DB/SEARCH/cat_db_al.cgi?e=e&j=p&pdfname=hxb; ComponentLink2Description: Digi-Key listing; ComponentLink2URL: http://digikey.com/product-detail/en/HHXB160ARA151MF80G/565-4175-2-ND/4847416; Tolerance: 20%; Voltage: 16V; Price: 0.7872; Device Package: Radial, Can - SMD; Impedance: -
footprint CAP ALUM 6.6MM
pins: 1, 2

## HHXB160ARA271MHA0G
designator C?, comment 270uF
CAP POLYMER 270UF 20% 16V SMD; Part Number: HHXB160ARA271MHA0G; Manufacturer: United Chemi-Con; TemperatureRange: -55C ~ 105C; Type: General Purpose; Ripple Current: 2.5A; Lifetime @ Temp: 5000 Hrs @ 105C; Value: 270uF; PartId: 7627; Supplier 1: Digi-Key; Supplier Part Number 1: 565-4176-2-ND; ComponentLink1Description: Datasheet; ComponentLink1URL: http://www.chemi-con.co.jp/cgi-bin/CAT_DB/SEARCH/cat_db_al.cgi?e=e&j=p&pdfname=hxb; ComponentLink2Description: Digi-Key listing; ComponentLink2URL: http://digikey.com/product-detail/en/HHXB160ARA271MHA0G/565-4176-2-ND/4847417; Tolerance: 20%; Voltage: 16V; Price: 1.4114; Device Package: Radial, Can - SMD; Impedance: -
footprint CAP ALUM 8.3MM
pins: 1, 2

## HHXB160ARA471MJA0G
designator C?, comment 470uF
CAP POLYMER 470UF 20% 16V SMD; Part Number: HHXB160ARA471MJA0G; Manufacturer: United Chemi-Con; TemperatureRange: -55C ~ 105C; Type: General Purpose; Ripple Current: 2.6A; Lifetime @ Temp: 5000 Hrs @ 105C; Value: 470uF; PartId: 7725; Supplier 1: Digi-Key; Supplier Part Number 1: 565-4177-2-ND; ComponentLink1Description: Datasheet; ComponentLink1URL: http://www.chemi-con.co.jp/cgi-bin/CAT_DB/SEARCH/cat_db_al.cgi?e=e&j=p&pdfname=hxb; ComponentLink2Description: Digi-Key listing; ComponentLink2URL: http://digikey.com/product-detail/en/HHXB160ARA471MJA0G/565-4177-2-ND/4847418; Tolerance: 20%; Voltage: 16V; Price: 1.751; Device Package: Radial, Can - SMD; Impedance: -
footprint CAP ALUM 10.3MM
pins: 1, 2

## HHXB160ARA820MF61G
designator C?, comment 82uF
CAP POLYMER HYB 82UF 20% 16V SMD; Part Number: HHXB160ARA820MF61G; Manufacturer: United Chemi-Con; TemperatureRange: -55C ~ 105C; Type: General Purpose; Ripple Current: 1.6A; Lifetime @ Temp: 5000 Hrs @ 105C; Value: 82uF; PartId: 7520; Supplier 1: Digi-Key; Supplier Part Number 1: 565-4178-2-ND; ComponentLink1Description: Datasheet; ComponentLink1URL: http://www.chemi-con.co.jp/cgi-bin/CAT_DB/SEARCH/cat_db_al.cgi?e=e&j=p&pdfname=hxb; ComponentLink2Description: Digi-Key listing; ComponentLink2URL: http://digikey.com/product-detail/en/HHXB160ARA820MF61G/565-4178-2-ND/4847415; Tolerance: 20%; Voltage: 16V; Price: 0.6196; Device Package: Radial, Can - SMD; Impedance: -
footprint CAP ALUM 6.6MM
pins: 1, 2

## HHXB250ARA101MF80G
designator C?, comment 100uF
CAP POLYMER 100UF 20% 25V SMD; Part Number: HHXB250ARA101MF80G; Manufacturer: United Chemi-Con; TemperatureRange: -55C ~ 105C; Type: General Purpose; Ripple Current: 2A; Lifetime @ Temp: 5000 Hrs @ 105C; Value: 100uF; PartId: 7534; Supplier 1: Digi-Key; Supplier Part Number 1: 565-4179-2-ND; ComponentLink1Description: Datasheet; ComponentLink1URL: http://www.chemi-con.co.jp/cgi-bin/CAT_DB/SEARCH/cat_db_al.cgi?e=e&j=p&pdfname=hxb; ComponentLink2Description: Digi-Key listing; ComponentLink2URL: http://digikey.com/product-detail/en/HHXB250ARA101MF80G/565-4179-2-ND/4847420; Tolerance: 20%; Voltage: 25V; Price: 0.7872; Device Package: Radial, Can - SMD; Impedance: -
footprint CAP ALUM 6.6MM
pins: 1, 2

## HHXB250ARA221MHA0G
designator C?, comment 220uF
CAP POLYMER 220UF 20% 25V SMD; Part Number: HHXB250ARA221MHA0G; Manufacturer: United Chemi-Con; TemperatureRange: -55C ~ 105C; Type: General Purpose; Ripple Current: 2.3A; Lifetime @ Temp: 5000 Hrs @ 105C; Value: 220uF; PartId: 7625; Supplier 1: Digi-Key; Supplier Part Number 1: 565-4180-2-ND; ComponentLink1Description: Datasheet; ComponentLink1URL: http://www.chemi-con.co.jp/cgi-bin/CAT_DB/SEARCH/cat_db_al.cgi?e=e&j=p&pdfname=hxb; ComponentLink2Description: Digi-Key listing; ComponentLink2URL: http://digikey.com/product-detail/en/HHXB250ARA221MHA0G/565-4180-2-ND/4847421; Tolerance: 20%; Voltage: 25V; Price: 1.4114; Device Package: Radial, Can - SMD; Impedance: -
footprint CAP ALUM 8.3MM
pins: 1, 2